# Altium integrated library HTLinn_D.IntLib: 62 symbols
Pins are listed as number, name and electrical type; pins without a type are passive.

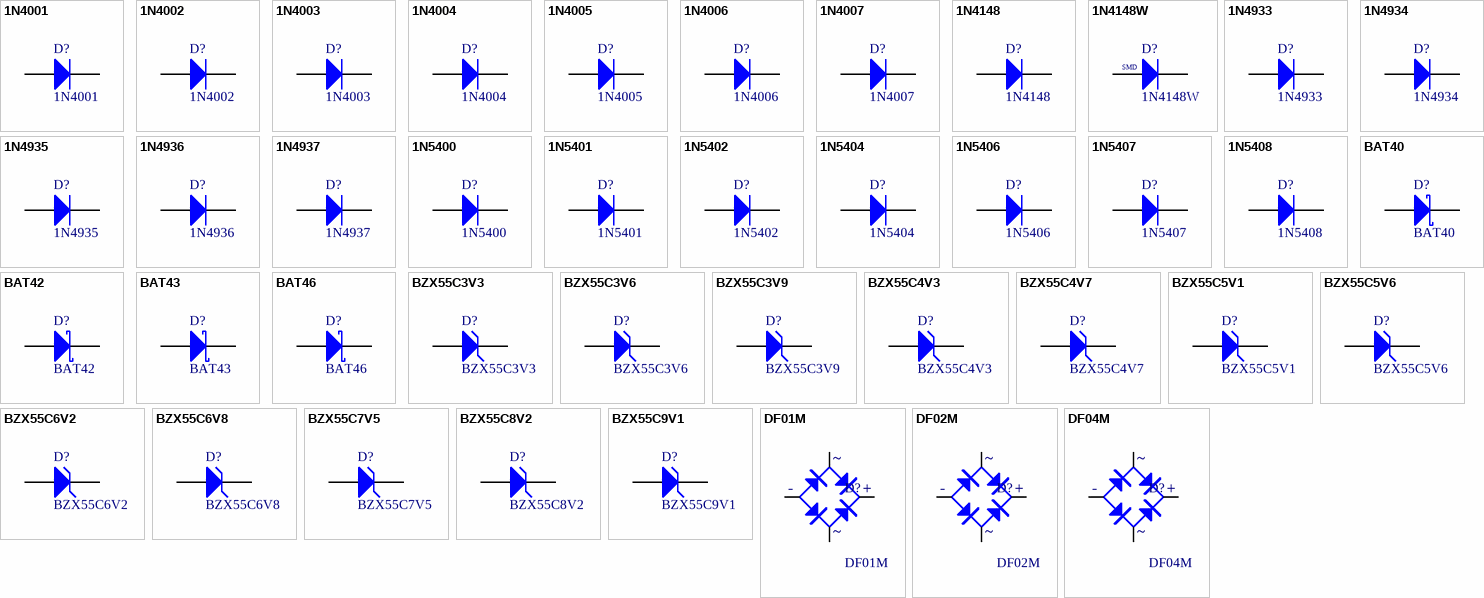
[diagram p0: symbols 1N4001 to DF04M]

## 1N4001
designator D?
Si-Diode; 50V, 1.00A, 3.00us (Diodes, Inc.); Usage: only permitted for non-commercial purposes at HTL I Innsbruck; SimulationModellSource: Diodes Incorporated; Published: 21-Feb-2011; LatestRevisionDate: 01-Nov-2012
footprint D_DO41-RM4 (DO41-10, diameter 2.54 mm, horizontal, grid 10.16 mm)
simulation model DI_1N4001 (DIODE)
signal-integrity model 1N4001
pins: A, C K

## 1N4002
designator D?
Si-Diode; 100V, 1.00A, 3.00us (Diodes, Inc.); Usage: only permitted for non-commercial purposes at HTL I Innsbruck; SimulationModellSource: Diodes Incorporated; Published: 21-Feb-2011; LatestRevisionDate: 01-Nov-2012
footprint D_DO41-RM4 (DO41-10, diameter 2.54 mm, horizontal, grid 10.16 mm)
simulation model DI_1N4002 (DIODE)
signal-integrity model 1N4002
pins: A, C K

## 1N4003
designator D?
Si-Diode; 200V, 1.00A, 3.00us (Diodes, Inc.); Usage: only permitted for non-commercial purposes at HTL I Innsbruck; SimulationModellSource: Diodes Incorporated; Published: 21-Feb-2011; LatestRevisionDate: 01-Nov-2012
footprint D_DO41-RM4 (DO41-10, diameter 2.54 mm, horizontal, grid 10.16 mm)
simulation model DI_1N4003 (DIODE)
signal-integrity model 1N4003
pins: A, C K

## 1N4004
designator D?
Si-Diode; 400V, 1.00A, 3.00us (Diodes, Inc.); Usage: only permitted for non-commercial purposes at HTL I Innsbruck; SimulationModellSource: Diodes Incorporated; Published: 21-Feb-2011; LatestRevisionDate: 01-Nov-2012
simulation model DI_1N4004 (DIODE)
signal-integrity model 1N4004
footprint D_DO41-RM4 (DO41-10, diameter 2.54 mm, horizontal, grid 10.16 mm)
pins: A, C K

## 1N4005
designator D?
Si-Diode; 600V, 1.00A, 3.00us (Diodes, Inc.); Usage: only permitted for non-commercial purposes at HTL I Innsbruck; SimulationModellSource: Diodes Incorporated; Published: 21-Feb-2011; LatestRevisionDate: 01-Nov-2012
footprint D_DO41-RM4 (DO41-10, diameter 2.54 mm, horizontal, grid 10.16 mm)
simulation model DI_1N4005 (DIODE)
signal-integrity model 1N4005
pins: A, C K

## 1N4006
designator D?
Si-Diode; 800V, 1.00A, 3.00us (Diodes, Inc.); Usage: only permitted for non-commercial purposes at HTL I Innsbruck; SimulationModellSource: Diodes Incorporated; Published: 21-Feb-2011; LatestRevisionDate: 01-Nov-2012
footprint D_DO41-RM4 (DO41-10, diameter 2.54 mm, horizontal, grid 10.16 mm)
simulation model DI_1N4006 (DIODE)
signal-integrity model 1N4006
pins: A, C K

## 1N4007
designator D?
Si-Diode; 1000V, 1.00A, 3.00us (Diodes, Inc.); Usage: only permitted for non-commercial purposes at HTL I Innsbruck; SimulationModellSource: Diodes Incorporated; Published: 21-Feb-2011; LatestRevisionDate: 01-Nov-2012
footprint D_DO41-RM4 (DO41-10, diameter 2.54 mm, horizontal, grid 10.16 mm)
simulation model DI_1N4007 (DIODE)
signal-integrity model 1N4007
pins: A, C K

## 1N4148
designator D?
Si-Diode; 75V, 0.300A, 4.00ns (Diodes Inc.); Usage: only permitted for non-commercial purposes at HTL I Innsbruck; SimulationModellSource: Diodes Incorporated; Published: 21-Feb-2011; LatestRevisionDate: 01-Nov-2012
simulation model 1N4148W (DIODE)
signal-integrity model 1N4148
footprint D_DO35-RM3 (DO35-7, diameter 2 mm, horizontal, grid 7.62 mm)
footprint D_DO35-RM4 (DO35-10, diameter 2 mm, horizontal, grid 10.16 mm)
pins: A, C K

## 1N4148W
designator D?
Si-Diode; 75V, 0.300A; Usage: only permitted for non-commercial purposes at HTL I Innsbruck; SimulationModellSource: Diodes Incorporated; Published: 29-Mar-2017; LatestRevisionDate: 13-Jun-2015
simulation model 1N4148W (DIODE)
signal-integrity model 1N4148
footprint D_SMD_SOD123
pins: A, C K
text: SMD

## 1N4933
designator D?
Fast Si-Diode; 50V, 1.00A, 200ns (Diodes, Inc.); Usage: only permitted for non-commercial purposes at HTL I Innsbruck; SimulationModellSource: Diodes Incorporated; Published: 21-Feb-2011; LatestRevisionDate: 01-Nov-2012
footprint D_DO41-RM4 (DO41-10, diameter 2.54 mm, horizontal, grid 10.16 mm)
simulation model DI_1N4933 (DIODE)
signal-integrity model 1N4933
pins: A, C K

## 1N4934
designator D?
Fast Si-Diode; 100V, 1.00A, 200ns (Diodes, Inc.); Usage: only permitted for non-commercial purposes at HTL I Innsbruck; SimulationModellSource: Diodes Incorporated; Published: 21-Feb-2011; LatestRevisionDate: 01-Nov-2012
footprint D_DO41-RM4 (DO41-10, diameter 2.54 mm, horizontal, grid 10.16 mm)
simulation model DI_1N4934 (DIODE)
signal-integrity model 1N4934
pins: A, C K

## 1N4935
designator D?
Fast Si-Diode; 200V, 1.00A, 200ns (Diodes, Inc.); Usage: only permitted for non-commercial purposes at HTL I Innsbruck; SimulationModellSource: Diodes Incorporated; Published: 21-Feb-2011; LatestRevisionDate: 01-Nov-2012
footprint D_DO41-RM4 (DO41-10, diameter 2.54 mm, horizontal, grid 10.16 mm)
simulation model DI_1N4935 (DIODE)
signal-integrity model 1N4935
pins: A, C K

## 1N4936
designator D?
Fast Si-Diode; 400V, 1.00A, 200ns (Diodes, Inc.); Usage: only permitted for non-commercial purposes at HTL I Innsbruck; SimulationModellSource: Diodes Incorporated; Published: 21-Feb-2011; LatestRevisionDate: 01-Nov-2012
footprint D_DO41-RM4 (DO41-10, diameter 2.54 mm, horizontal, grid 10.16 mm)
simulation model DI_1N4936 (DIODE)
signal-integrity model 1N4936
pins: A, C K

## 1N4937
designator D?
Fast Si-Diode; 600V, 1.00A, 200ns (Diodes, Inc.); Usage: only permitted for non-commercial purposes at HTL I Innsbruck; SimulationModellSource: Diodes Incorporated; Published: 21-Feb-2011; LatestRevisionDate: 01-Nov-2012
footprint D_DO41-RM4 (DO41-10, diameter 2.54 mm, horizontal, grid 10.16 mm)
simulation model DI_1N4937 (DIODE)
signal-integrity model 1N4937
pins: A, C K

## 1N5400
designator D?
Si-Diode; 50V, 3.00A, 3.00us (Diodes, Inc.); Usage: only permitted for non-commercial purposes at HTL I Innsbruck; SimulationModellSource: Diodes Incorporated; Published: 21-Feb-2011; LatestRevisionDate: 01-Nov-2012
footprint D_DO41-RM4 (DO41-10, diameter 2.54 mm, horizontal, grid 10.16 mm)
simulation model DI_1N5400 (DIODE)
signal-integrity model 1N5400
pins: A, C K

## 1N5401
designator D?
Si-Diode; 100V, 3.00A, 3.00us (Diodes, Inc.); Usage: only permitted for non-commercial purposes at HTL I Innsbruck; SimulationModellSource: Diodes Incorporated; Published: 21-Feb-2011; LatestRevisionDate: 01-Nov-2012
footprint D_DO41-RM4 (DO41-10, diameter 2.54 mm, horizontal, grid 10.16 mm)
simulation model DI_1N5401 (DIODE)
signal-integrity model 1N5401
pins: A, C K

## 1N5402
designator D?
Si-Diode; 200V, 3.00A, 3.00us (Diodes, Inc.); Usage: only permitted for non-commercial purposes at HTL I Innsbruck; SimulationModellSource: Diodes Incorporated; Published: 21-Feb-2011; LatestRevisionDate: 01-Nov-2012
footprint D_DO41-RM4 (DO41-10, diameter 2.54 mm, horizontal, grid 10.16 mm)
simulation model DI_1N5402 (DIODE)
signal-integrity model 1N5402
pins: A, C K

## 1N5404
designator D?
Si-Diode; 400V, 3.00A, 3.00us (Diodes, Inc.); Usage: only permitted for non-commercial purposes at HTL I Innsbruck; SimulationModellSource: Diodes Incorporated; Published: 21-Feb-2011; LatestRevisionDate: 01-Nov-2012
footprint D_DO41-RM4 (DO41-10, diameter 2.54 mm, horizontal, grid 10.16 mm)
simulation model DI_1N5404 (DIODE)
signal-integrity model 1N5404
pins: A, C K

## 1N5406
designator D?
Si-Diode; 600V, 3.00A, 3.00us (Diodes, Inc.); Usage: only permitted for non-commercial purposes at HTL I Innsbruck; SimulationModellSource: Diodes Incorporated; Published: 21-Feb-2011; LatestRevisionDate: 01-Nov-2012
footprint D_DO41-RM4 (DO41-10, diameter 2.54 mm, horizontal, grid 10.16 mm)
simulation model DI_1N5406 (DIODE)
signal-integrity model 1N5406
pins: A, C K

## 1N5407
designator D?
Si-Diode; 800V, 3.00A, 3.00us (Diodes, Inc.); Usage: only permitted for non-commercial purposes at HTL I Innsbruck; SimulationModellSource: Diodes Incorporated; Published: 21-Feb-2011; LatestRevisionDate: 01-Nov-2012
footprint D_DO41-RM4 (DO41-10, diameter 2.54 mm, horizontal, grid 10.16 mm)
simulation model DI_1N5407 (DIODE)
signal-integrity model 1N5407
pins: A, C K

## 1N5408
designator D?
Si-Diode; 1000V, 3.00A, 3.00us (Diodes, Inc.); Usage: only permitted for non-commercial purposes at HTL I Innsbruck; SimulationModellSource: Diodes Incorporated; Published: 21-Feb-2011; LatestRevisionDate: 01-Nov-2012
footprint D_DO41-RM4 (DO41-10, diameter 2.54 mm, horizontal, grid 10.16 mm)
simulation model DI_1N5408 (DIODE)
signal-integrity model 1N5408
pins: A, C K

## BAT40
designator D?
Schottky Si-Diode; 40V, 0.200A, 5.00ns (Diodes Inc); Usage: only permitted for non-commercial purposes at HTL I Innsbruck; SimulationModellSource: Diodes Incorporated; Published: 21-Feb-2011; LatestRevisionDate: 01-Nov-2012
simulation model DI_BAT40V (Diode)
signal-integrity model BAT40
footprint D_DO35-RM4 (DO35-10, diameter 2 mm, horizontal, grid 10.16 mm)
pins: A, C K

## BAT42
designator D?
Schottky Si-Diode; 30V, 0.200A, 5.00ns (Diodes Inc); Usage: only permitted for non-commercial purposes at HTL I Innsbruck; SimulationModellSource: Diodes Incorporated; Published: 21-Feb-2011; LatestRevisionDate: 01-Nov-2012
simulation model DI_BAT42W (Diode)
signal-integrity model BAT42
footprint D_DO35-RM4 (DO35-10, diameter 2 mm, horizontal, grid 10.16 mm)
pins: A, C K

## BAT43
designator D?
Schottky Si-Diode; 30V, 0.200A, 5.00ns (Diodes Inc); Usage: only permitted for non-commercial purposes at HTL I Innsbruck; SimulationModellSource: Diodes Incorporated; Published: 21-Feb-2011; LatestRevisionDate: 01-Nov-2012
simulation model DI_BAT43W (Diode)
signal-integrity model BAT43
footprint D_DO35-RM4 (DO35-10, diameter 2 mm, horizontal, grid 10.16 mm)
pins: A, C K

## BAT46
designator D?
Schottky Si-Diode; 100V, 0.150A, 5.00ns (Diodes Inc); Usage: only permitted for non-commercial purposes at HTL I Innsbruck; SimulationModellSource: Diodes Incorporated; Published: 21-Feb-2011; LatestRevisionDate: 01-Nov-2012
simulation model DI_BAT46W (Diode)
signal-integrity model BAT46
footprint D_DO35-RM4 (DO35-10, diameter 2 mm, horizontal, grid 10.16 mm)
pins: A, C K

## BZX55C3V3
designator D?
Zener Diode 3.3V, 500mW (Silicon Epitaxial Planar); Usage: only permitted for non-commercial purposes at HTL I Innsbruck; SimulationModellSource: Vishay Telefunken Discrete Diode; Published: 04-Jun-2011; LatestRevisionDate: 01-Nov-2012; Publisher: Michael Kupfner
footprint D_DO35-RM3 (DO35-7, diameter 2 mm, horizontal, grid 7.62 mm); pin to pad 1>A 2>C
simulation model BZX55C3V3 (SUBCKT)
signal-integrity model BZX55C3V3
footprint D_DO35-RM4 (DO35-10, diameter 2 mm, horizontal, grid 10.16 mm); pin to pad 1>A 2>C
pins: 1 A, 2 K

## BZX55C3V6
designator D?
Zener Diode 3.6V, 500mW (Silicon Epitaxial Planar); Usage: only permitted for non-commercial purposes at HTL I Innsbruck; SimulationModellSource: Vishay Telefunken Discrete Diode; Published: 04-Jun-2011; LatestRevisionDate: 01-Nov-2012; Publisher: Michael Kupfner
footprint D_DO35-RM3 (DO35-7, diameter 2 mm, horizontal, grid 7.62 mm); pin to pad 1>A 2>C
simulation model BZX55C3V6 (SUBCKT)
signal-integrity model BZX55C3V6
footprint D_DO35-RM4 (DO35-10, diameter 2 mm, horizontal, grid 10.16 mm); pin to pad 1>A 2>C
pins: 1 A, 2 K

## BZX55C3V9
designator D?
Zener Diode 3.9V, 500mW (Silicon Epitaxial Planar); Usage: only permitted for non-commercial purposes at HTL I Innsbruck; SimulationModellSource: Vishay Telefunken Discrete Diode; Published: 04-Jun-2011; LatestRevisionDate: 01-Nov-2012; Publisher: Michael Kupfner
footprint D_DO35-RM3 (DO35-7, diameter 2 mm, horizontal, grid 7.62 mm); pin to pad 1>A 2>C
simulation model BZX55C3V9 (SUBCKT)
signal-integrity model BZX55C3V9
footprint D_DO35-RM4 (DO35-10, diameter 2 mm, horizontal, grid 10.16 mm); pin to pad 1>A 2>C
pins: 1 A, 2 K

## BZX55C4V3
designator D?
Zener Diode 4.3V, 500mW (Silicon Epitaxial Planar); Usage: only permitted for non-commercial purposes at HTL I Innsbruck; SimulationModellSource: Vishay Telefunken Discrete Diode; Published: 04-Jun-2011; LatestRevisionDate: 01-Nov-2012; Publisher: Michael Kupfner
footprint D_DO35-RM3 (DO35-7, diameter 2 mm, horizontal, grid 7.62 mm); pin to pad 1>A 2>C
simulation model BZX55C4V3 (SUBCKT)
signal-integrity model BZX55C4V3
footprint D_DO35-RM4 (DO35-10, diameter 2 mm, horizontal, grid 10.16 mm); pin to pad 1>A 2>C
pins: 1 A, 2 K

## BZX55C4V7
designator D?
Zener Diode 4.7V, 500mW (Silicon Epitaxial Planar); Usage: only permitted for non-commercial purposes at HTL I Innsbruck; SimulationModellSource: Vishay Telefunken Discrete Diode; Published: 04-Jun-2011; LatestRevisionDate: 01-Nov-2012; Publisher: Michael Kupfner
footprint D_DO35-RM3 (DO35-7, diameter 2 mm, horizontal, grid 7.62 mm); pin to pad 1>A 2>C
simulation model BZX55C4V7 (SUBCKT)
signal-integrity model BZX55C4V7
footprint D_DO35-RM4 (DO35-10, diameter 2 mm, horizontal, grid 10.16 mm); pin to pad 1>A 2>C
pins: 1 A, 2 K

## BZX55C5V1
designator D?
Zener Diode 5.1V, 500mW (Silicon Epitaxial Planar); Usage: only permitted for non-commercial purposes at HTL I Innsbruck; SimulationModellSource: Vishay Telefunken Discrete Diode; Published: 04-Jun-2011; LatestRevisionDate: 01-Nov-2012; Publisher: Michael Kupfner
footprint D_DO35-RM3 (DO35-7, diameter 2 mm, horizontal, grid 7.62 mm); pin to pad 1>A 2>C
simulation model BZX55C5V1 (SUBCKT)
signal-integrity model BZX55C5V1
footprint D_DO35-RM4 (DO35-10, diameter 2 mm, horizontal, grid 10.16 mm); pin to pad 1>A 2>C
pins: 1 A, 2 K

## BZX55C5V6
designator D?
Zener Diode 5.6V, 500mW (Silicon Epitaxial Planar); Usage: only permitted for non-commercial purposes at HTL I Innsbruck; SimulationModellSource: Vishay Telefunken Discrete Diode; Published: 04-Jun-2011; LatestRevisionDate: 01-Nov-2012; Publisher: Michael Kupfner
footprint D_DO35-RM3 (DO35-7, diameter 2 mm, horizontal, grid 7.62 mm); pin to pad 1>A 2>C
simulation model BZX55C5V6 (SUBCKT)
signal-integrity model BZX55C5V6
footprint D_DO35-RM4 (DO35-10, diameter 2 mm, horizontal, grid 10.16 mm); pin to pad 1>A 2>C
pins: 1 A, 2 K

## BZX55C6V2
designator D?
Zener Diode 6.2V, 500mW (Silicon Epitaxial Planar); Usage: only permitted for non-commercial purposes at HTL I Innsbruck; SimulationModellSource: Vishay Telefunken Discrete Diode; Published: 04-Jun-2011; LatestRevisionDate: 01-Nov-2012; Publisher: Michael Kupfner
footprint D_DO35-RM3 (DO35-7, diameter 2 mm, horizontal, grid 7.62 mm); pin to pad 1>A 2>C
simulation model BZX55C6V2 (SUBCKT)
signal-integrity model BZX55C6V2
footprint D_DO35-RM4 (DO35-10, diameter 2 mm, horizontal, grid 10.16 mm); pin to pad 1>A 2>C
pins: 1 A, 2 K

## BZX55C6V8
designator D?
Zener Diode 6.8V, 500mW (Silicon Epitaxial Planar); Usage: only permitted for non-commercial purposes at HTL I Innsbruck; SimulationModellSource: Vishay Telefunken Discrete Diode; Published: 04-Jun-2011; LatestRevisionDate: 01-Nov-2012; Publisher: Michael Kupfner
footprint D_DO35-RM3 (DO35-7, diameter 2 mm, horizontal, grid 7.62 mm); pin to pad 1>A 2>C
simulation model BZX55C6V8 (SUBCKT)
signal-integrity model BZX55C6V8
footprint D_DO35-RM4 (DO35-10, diameter 2 mm, horizontal, grid 10.16 mm); pin to pad 1>A 2>C
pins: 1 A, 2 K

## BZX55C7V5
designator D?
Zener Diode 7.5V, 500mW (Silicon Epitaxial Planar); Usage: only permitted for non-commercial purposes at HTL I Innsbruck; SimulationModellSource: Vishay Telefunken Discrete Diode; Published: 04-Jun-2011; LatestRevisionDate: 01-Nov-2012; Publisher: Michael Kupfner
footprint D_DO35-RM3 (DO35-7, diameter 2 mm, horizontal, grid 7.62 mm); pin to pad 1>A 2>C
simulation model BZX55C7V5 (SUBCKT)
signal-integrity model BZX55C7V5
footprint D_DO35-RM4 (DO35-10, diameter 2 mm, horizontal, grid 10.16 mm); pin to pad 1>A 2>C
pins: 1 A, 2 K

## BZX55C8V2
designator D?
Zener Diode 8.2V, 500mW (Silicon Epitaxial Planar); Usage: only permitted for non-commercial purposes at HTL I Innsbruck; SimulationModellSource: Vishay Telefunken Discrete Diode; Published: 04-Jun-2011; LatestRevisionDate: 01-Nov-2012; Publisher: Michael Kupfner
footprint D_DO35-RM3 (DO35-7, diameter 2 mm, horizontal, grid 7.62 mm); pin to pad 1>A 2>C
simulation model BZX55C8V2 (SUBCKT)
signal-integrity model BZX55C8V2
footprint D_DO35-RM4 (DO35-10, diameter 2 mm, horizontal, grid 10.16 mm); pin to pad 1>A 2>C
pins: 1 A, 2 K

## BZX55C9V1
designator D?
Zener Diode 9.1V, 500mW (Silicon Epitaxial Planar); Usage: only permitted for non-commercial purposes at HTL I Innsbruck; SimulationModellSource: Vishay Telefunken Discrete Diode; Published: 04-Jun-2011; LatestRevisionDate: 01-Nov-2012; Publisher: Michael Kupfner
footprint D_DO35-RM3 (DO35-7, diameter 2 mm, horizontal, grid 7.62 mm); pin to pad 1>A 2>C
simulation model BZX55C9V1 (SUBCKT)
signal-integrity model BZX55C9V1
footprint D_DO35-RM4 (DO35-10, diameter 2 mm, horizontal, grid 10.16 mm); pin to pad 1>A 2>C
pins: 1 A, 2 K

## DF01M
designator D?
Diode Bridge Si; 100V, 1.00A, 3.00us (Diodes Inc); SimulationModellSource: Diodes Incorporated; Usage: only permitted for non-commercial purposes at HTL I Innsbruck; LatestRevisionDate: 07-Sep-2019; Published: 19-Nov-2012
simulation model DF01M (SUBCKT)
footprint D_DIL_Bridge (Diode Bridge DIL); pin to pad 1>V- 2>AC1 3>V+ 4>AC2
signal-integrity model DF01M
pins: 1 V-, 2 AC1, 3 V+, 4 AC2
text: ~; -; +

## DF02M
designator D?
Diode Bridge Si; 200V, 1.00A, 3.00us (Diodes Inc); SimulationModellSource: Diodes Incorporated; Usage: only permitted for non-commercial purposes at HTL I Innsbruck; LatestRevisionDate: 07-Sep-2019; Published: 19-Nov-2012
simulation model DF02M (SUBCKT)
footprint D_DIL_Bridge (Diode Bridge DIL); pin to pad 1>V- 2>AC1 3>V+ 4>AC2
signal-integrity model DF02M
pins: 1 V-, 2 AC1, 3 V+, 4 AC2
text: ~; -; +

## DF04M
designator D?
Diode Bridge Si; 400V, 1.00A, 3.00us (Diodes Inc); SimulationModellSource: Diodes Incorporated; Usage: only permitted for non-commercial purposes at HTL I Innsbruck; LatestRevisionDate: 07-Sep-2019; Published: 19-Nov-2012
simulation model DF04M (SUBCKT)
footprint D_DIL_Bridge (Diode Bridge DIL); pin to pad 1>V- 2>AC1 3>V+ 4>AC2
signal-integrity model DF04M
pins: 1 V-, 2 AC1, 3 V+, 4 AC2
text: ~; -; +

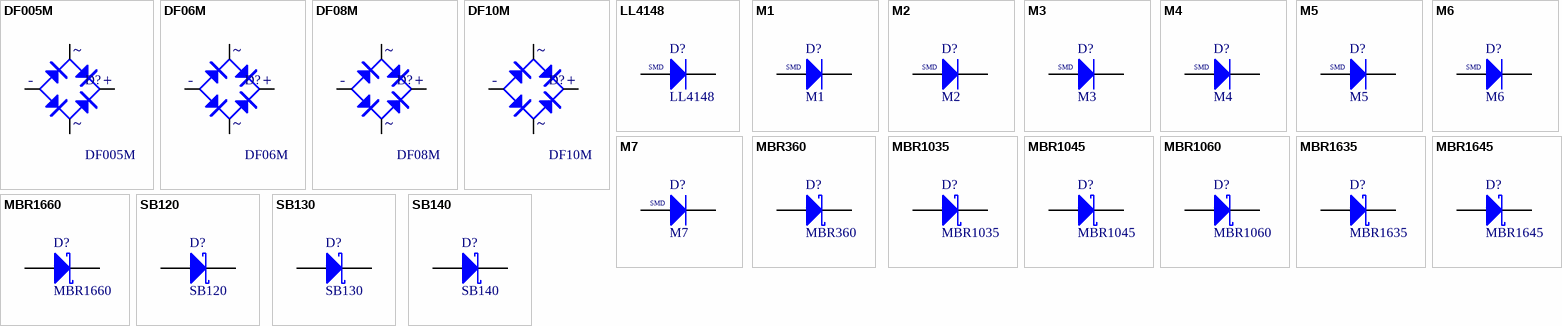
[diagram p1: symbols DF005M to SB140]

## DF005M
designator D?
Diode Bridge Si; 50V, 1.00A, 3.00us (Diodes Inc); SimulationModellSource: Diodes Incorporated; Usage: only permitted for non-commercial purposes at HTL I Innsbruck; LatestRevisionDate: 07-Sep-2019; Published: 19-Nov-2012
simulation model DF005M (SUBCKT)
footprint D_DIL_Bridge (Diode Bridge DIL); pin to pad 1>V- 2>AC1 3>V+ 4>AC2
signal-integrity model DF005M
pins: 1 V-, 2 AC1, 3 V+, 4 AC2
text: ~; -; +

## DF06M
designator D?
Diode Bridge Si; 600V, 1.00A, 3.00us (Diodes Inc); SimulationModellSource: Diodes Incorporated; Usage: only permitted for non-commercial purposes at HTL I Innsbruck; LatestRevisionDate: 07-Sep-2019; Published: 19-Nov-2012
simulation model DF06M (SUBCKT)
footprint D_DIL_Bridge (Diode Bridge DIL); pin to pad 1>V- 2>AC1 3>V+ 4>AC2
signal-integrity model DF06M
pins: 1 V-, 2 AC1, 3 V+, 4 AC2
text: ~; -; +

## DF08M
designator D?
Diode Bridge Si; 800V, 1.00A, 3.00us (Diodes Inc); SimulationModellSource: Diodes Incorporated; Usage: only permitted for non-commercial purposes at HTL I Innsbruck; LatestRevisionDate: 07-Sep-2019; Published: 19-Nov-2012
simulation model DF08M (SUBCKT)
footprint D_DIL_Bridge (Diode Bridge DIL); pin to pad 1>V- 2>AC1 3>V+ 4>AC2
signal-integrity model DF08M
pins: 1 V-, 2 AC1, 3 V+, 4 AC2
text: ~; -; +

## DF10M
designator D?
Diode Bridge Si; 1000V, 1.00A, 3.00us (Diodes Inc); SimulationModellSource: Diodes Incorporated; Usage: only permitted for non-commercial purposes at HTL I Innsbruck; LatestRevisionDate: 07-Sep-2019; Published: 19-Nov-2012
simulation model DF10M (SUBCKT)
footprint D_DIL_Bridge (Diode Bridge DIL); pin to pad 1>V- 2>AC1 3>V+ 4>AC2
signal-integrity model DF10M
pins: 1 V-, 2 AC1, 3 V+, 4 AC2
text: ~; -; +

## LL4148
designator D?
Si-Diode; 75V, 0.300A; Usage: only permitted for non-commercial purposes at HTL I Innsbruck; SimulationModellSource: Diodes Incorporated; Published: 29-Mar-2017; LatestRevisionDate: 13-Jun-2015
simulation model 1N4148W (DIODE)
signal-integrity model 1N4148
footprint D_SMD_SOD80
pins: A, C K
text: SMD

## M1
designator D?
Si-Diode; 50V, 1A; Usage: only permitted for non-commercial purposes at HTL I Innsbruck; SimulationModellSource: Diodes Incorporated; Published: 04-Jan-2018; LatestRevisionDate: 04-Jan-2018
simulation model DI_1N4001 (DIODE)
signal-integrity model M1
footprint D_SMD_DO214AC (JEDEC DO-214AC molded plastic body)
pins: A, C K
text: SMD

## M2
designator D?
Si-Diode; 100V, 1A; Usage: only permitted for non-commercial purposes at HTL I Innsbruck; SimulationModellSource: Diodes Incorporated; Published: 04-Jan-2018; LatestRevisionDate: 04-Jan-2018
simulation model DI_1N4002 (DIODE)
signal-integrity model M2
footprint D_SMD_DO214AC (JEDEC DO-214AC molded plastic body)
pins: A, C K
text: SMD

## M3
designator D?
Si-Diode; 200V, 1A; Usage: only permitted for non-commercial purposes at HTL I Innsbruck; SimulationModellSource: Diodes Incorporated; Published: 04-Jan-2018; LatestRevisionDate: 04-Jan-2018
simulation model DI_1N4003 (DIODE)
signal-integrity model M3
footprint D_SMD_DO214AC (JEDEC DO-214AC molded plastic body)
pins: A, C K
text: SMD

## M4
designator D?
Si-Diode; 400V, 1A; Usage: only permitted for non-commercial purposes at HTL I Innsbruck; SimulationModellSource: Diodes Incorporated; Published: 04-Jan-2018; LatestRevisionDate: 04-Jan-2018
simulation model DI_1N4004 (DIODE)
signal-integrity model M4
footprint D_SMD_DO214AC (JEDEC DO-214AC molded plastic body)
pins: A, C K
text: SMD

## M5
designator D?
Si-Diode; 600V, 1A; Usage: only permitted for non-commercial purposes at HTL I Innsbruck; SimulationModellSource: Diodes Incorporated; Published: 04-Jan-2018; LatestRevisionDate: 04-Jan-2018
simulation model DI_1N4005 (DIODE)
signal-integrity model M5
footprint D_SMD_DO214AC (JEDEC DO-214AC molded plastic body)
pins: A, C K
text: SMD

## M6
designator D?
Si-Diode; 800V, 1A; Usage: only permitted for non-commercial purposes at HTL I Innsbruck; SimulationModellSource: Diodes Incorporated; Published: 04-Jan-2018; LatestRevisionDate: 04-Jan-2018
simulation model DI_1N4006 (DIODE)
signal-integrity model M6
footprint D_SMD_DO214AC (JEDEC DO-214AC molded plastic body)
pins: A, C K
text: SMD

## M7
designator D?
Si-Diode; 1000V, 1A; Usage: only permitted for non-commercial purposes at HTL I Innsbruck; SimulationModellSource: Diodes Incorporated; Published: 04-Jan-2018; LatestRevisionDate: 04-Jan-2018
simulation model DI_1N4007 (DIODE)
signal-integrity model M7
footprint D_SMD_DO214AC (JEDEC DO-214AC molded plastic body)
pins: A, C K
text: SMD

## MBR360
designator D?
Schottky Si-Diode; 60V, 3.00A, 10.00ns (Diodes Inc); Usage: only permitted for non-commercial purposes at HTL I Innsbruck; SimulationModellSource: Diodes Incorporated; Published: 21-Feb-2011; LatestRevisionDate: 01-Nov-2012
simulation model DI_MBRM360 (Diode)
signal-integrity model MBR360
footprint D_DO41-RM4 (DO41-10, diameter 2.54 mm, horizontal, grid 10.16 mm)
pins: A, C K

## MBR1035
designator D?
Schottky Barrier Rectifier Si-Diode; 35V, 10.0A, 5.00ns (Diodes Inc); Usage: only permitted for non-commercial purposes at HTL I Innsbruck; SimulationModellSource: Diodes Incorporated; Published: 21-Feb-2011; LatestRevisionDate: 21-Feb-2011
simulation model DI_MBR1035 (Diode)
signal-integrity model MBR1035
footprint D_TO-220AC (TO, Thru-Hole, Vertical, Heatsink Mounted; 3 In-Line Leads (1 Absent); Pitch 2.54 mm)
pins: A, C K

## MBR1045
designator D?
Schottky Barrier Rectifier Si-Diode; 45V, 10.0A, 5.00ns (Diodes Inc); Usage: only permitted for non-commercial purposes at HTL I Innsbruck; SimulationModellSource: Diodes Incorporated; Published: 21-Feb-2011; LatestRevisionDate: 21-Feb-2011
simulation model DI_MBR1045 (Diode)
signal-integrity model MBR1045
footprint D_TO-220AC (TO, Thru-Hole, Vertical, Heatsink Mounted; 3 In-Line Leads (1 Absent); Pitch 2.54 mm)
pins: A, C K

## MBR1060
designator D?
Schottky Barrier Rectifier Si-Diode; 60V, 10.0A, 5.00ns (Diodes Inc); Usage: only permitted for non-commercial purposes at HTL I Innsbruck; SimulationModellSource: Diodes Incorporated; Published: 21-Feb-2011; LatestRevisionDate: 21-Feb-2011
simulation model DI_MBR1060 (Diode)
signal-integrity model MBR1060
footprint D_TO-220AC (TO, Thru-Hole, Vertical, Heatsink Mounted; 3 In-Line Leads (1 Absent); Pitch 2.54 mm)
pins: A, C K

## MBR1635
designator D?
Schottky Barrier Rectifier Si-Diode; 35V, 16.0A, 5.00ns (Diodes Inc); Usage: only permitted for non-commercial purposes at HTL I Innsbruck; SimulationModellSource: Diodes Incorporated; Published: 21-Feb-2011; LatestRevisionDate: 21-Feb-2011
simulation model DI_MBR1635 (Diode)
signal-integrity model MBR1635
footprint D_TO-220AC (TO, Thru-Hole, Vertical, Heatsink Mounted; 3 In-Line Leads (1 Absent); Pitch 2.54 mm)
pins: A, C K

## MBR1645
designator D?
Schottky Barrier Rectifier Si-Diode; 45V, 16.0A, 5.00ns (Diodes Inc); Usage: only permitted for non-commercial purposes at HTL I Innsbruck; SimulationModellSource: Diodes Incorporated; Published: 21-Feb-2011; LatestRevisionDate: 21-Feb-2011
simulation model DI_MBR1645 (Diode)
signal-integrity model MBR1645
footprint D_TO-220AC (TO, Thru-Hole, Vertical, Heatsink Mounted; 3 In-Line Leads (1 Absent); Pitch 2.54 mm)
pins: A, C K

## MBR1660
designator D?
Schottky Barrier Rectifier Si-Diode; 60V, 16.0A, 5.00ns (Diodes Inc); Usage: only permitted for non-commercial purposes at HTL I Innsbruck; SimulationModellSource: Diodes Incorporated; Published: 21-Feb-2011; LatestRevisionDate: 21-Feb-2011
simulation model DI_MBR1660 (Diode)
signal-integrity model MBR1660
footprint D_TO-220AC (TO, Thru-Hole, Vertical, Heatsink Mounted; 3 In-Line Leads (1 Absent); Pitch 2.54 mm)
pins: A, C K

## SB120
designator D?
Schottky Si-Diode; 20V, 1.00A, 5.00ns (Diodes Inc); Usage: only permitted for non-commercial purposes at HTL I Innsbruck; SimulationModellSource: Diodes Incorporated; Published: 21-Feb-2011; LatestRevisionDate: 01-Nov-2012
simulation model DI_SB120 (Diode)
signal-integrity model SB120
footprint D_DO41-RM4 (DO41-10, diameter 2.54 mm, horizontal, grid 10.16 mm)
pins: A, C K

## SB130
designator D?
Schottky Si-Diode; 30V, 1.00A, 5.00ns (Diodes Inc); Usage: only permitted for non-commercial purposes at HTL I Innsbruck; SimulationModellSource: Diodes Incorporated; Published: 21-Feb-2011; LatestRevisionDate: 01-Nov-2012
simulation model DI_SB130 (Diode)
signal-integrity model SB130
footprint D_DO41-RM4 (DO41-10, diameter 2.54 mm, horizontal, grid 10.16 mm)
pins: A, C K

## SB140
designator D?
Schottky Si-Diode; 40V, 1.00A, 5.00ns (Diodes Inc); Usage: only permitted for non-commercial purposes at HTL I Innsbruck; SimulationModellSource: Diodes Incorporated; Published: 21-Feb-2011; LatestRevisionDate: 01-Nov-2012
simulation model DI_SB140 (Diode)
signal-integrity model SB140
footprint D_DO41-RM4 (DO41-10, diameter 2.54 mm, horizontal, grid 10.16 mm)
pins: A, C K